# EAGLE library part TPT3232E-TS3R (library pimoroni-ics)
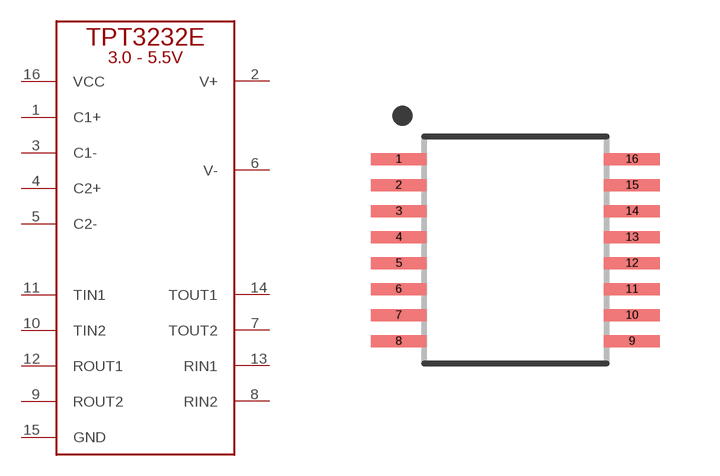
[diagram p180: symbol with the pads of TSSOP-16; footprint TSSOP-16]

Designator prefix U

## TPT3232E-TS3R  [TSSOP-16]
1  C1+
2  V+
3  C1-
4  C2+
5  C2-
6  V-
7  TOUT2
8  RIN2
9  ROUT2
10  TIN2
11  TIN1
12  ROUT1
13  RIN1
14  TOUT1
15  GND
16  VCC

## Footprint TSSOP-16 (pad centres in mm)
smd 1.4 x 0.3: 1 -2.918,2.275; 2 -2.918,1.625; 3 -2.918,0.975; 4 -2.918,0.325; 5 -2.918,-0.325; 6 -2.918,-0.975; 7 -2.918,-1.625; 8 -2.918,-2.275; 9 2.918,-2.275; 10 2.918,-1.625; 11 2.918,-0.975; 12 2.918,-0.325; 13 2.918,0.325; 14 2.918,0.975; 15 2.918,1.625; 16 2.918,2.275